# EAGLE library part TPIC6C596 (library tpic)
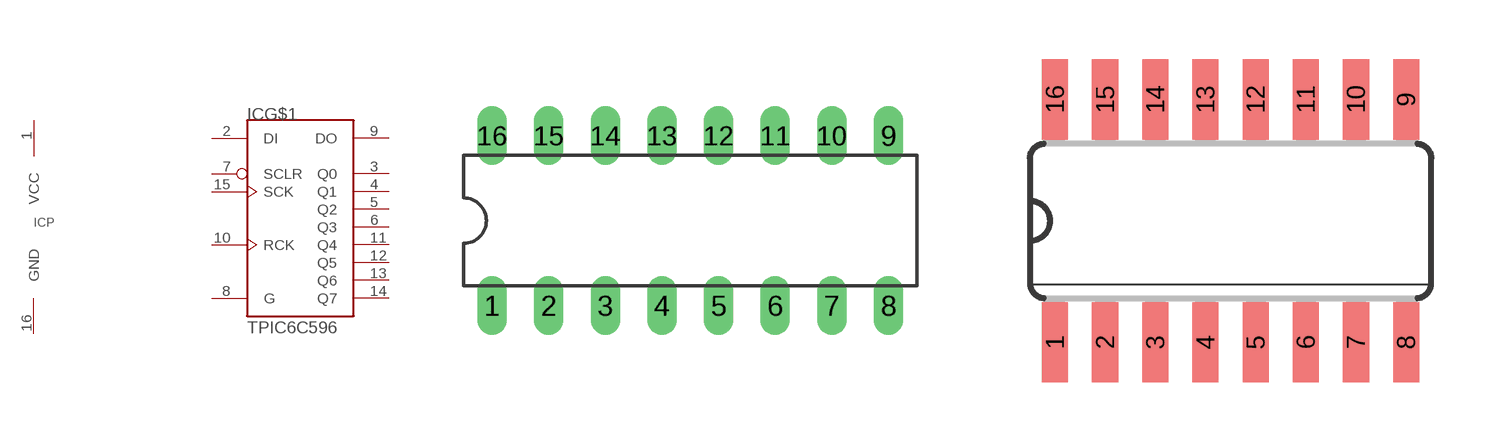
[diagram p1: symbol with the pads of DIL16; footprints DIL16, SO16]

Designator prefix IC; gates G$1=595-596 P=VCC-GND-C

## TPIC6C596N  [DIL16]
1  P:VCC  pwr
2  G$1:DI  in
3  G$1:Q0  oc
4  G$1:Q1  oc
5  G$1:Q2  oc
6  G$1:Q3  oc
7  G$1:SCLR  in
8  G$1:G  in
9  G$1:DO  out
10  G$1:RCK  in
11  G$1:Q4  oc
12  G$1:Q5  oc
13  G$1:Q6  oc
14  G$1:Q7  oc
15  G$1:SCK  in
16  P:GND  pwr

## TPIC6C596PW  [SO16]
Pads as for DIL16

## Footprint DIL16 (pad centres in mm)
Dual In Line Package
drill 0.813 long: 1 -8.89,-3.81; 2 -6.35,-3.81; 3 -3.81,-3.81; 4 -1.27,-3.81; 5 1.27,-3.81; 6 3.81,-3.81; 7 6.35,-3.81; 8 8.89,-3.81; 9 8.89,3.81; 10 6.35,3.81; 11 3.81,3.81; 12 1.27,3.81; 13 -1.27,3.81; 14 -3.81,3.81; 15 -6.35,3.81; 16 -8.89,3.81

## Footprint SO16 (pad centres in mm)
Small Outline package 150 mil
smd 0.66 x 2.032: 1 -4.445,-3.073; 2 -3.175,-3.073; 3 -1.905,-3.073; 4 -0.635,-3.073; 5 0.635,-3.073; 6 1.905,-3.073; 7 3.175,-3.073; 8 4.445,-3.073; 9 4.445,3.073; 10 3.175,3.073; 11 1.905,3.073; 12 0.635,3.073; 13 -0.635,3.073; 14 -1.905,3.073; 15 -3.175,3.073; 16 -4.445,3.073